# Altium schematic symbol library Analog.SchLib: 1 symbol
Pins are listed as number, name and electrical type; pins without a type are passive.

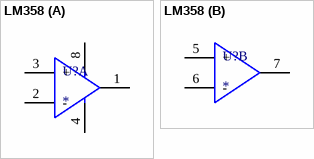
[diagram p0: symbol LM358]

## LM358
designator U?
footprint SOP-8_L5.0-W4.4-P1.27-LS6.0-BL
part A pins: 1, 2 -, 3 +, 4, 8 5
part B pins: 5 +, 6 -, 7